# Altium footprint library EEPROM.PcbLib: 2 footprints
Each footprint in its own frame and in the unit in brackets; x right, y up, seen from the top. Pads: shape width x height; smd on the part's side, far side on the other; paste and mask are expansions set on the pad; w line width, h text height; cw(c..) or ccw(c..) is an arc to the next point about the centre after c.
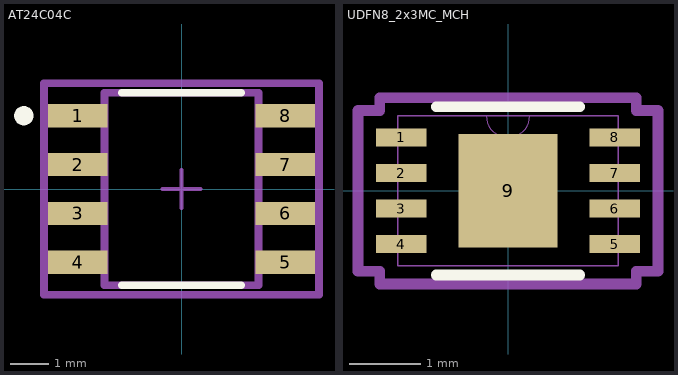
[diagram p0: the footprints below, top view; thin cyan lines are the x and y axes]

## AT24C04C [mm]
pads (8):
  rect 1.55x0.6 smd paste+0 mask+0: 1(-2.7,1.905) 2(-2.7,0.635) 3(-2.7,-0.635) 4(-2.7,-1.905) 5(2.7,-1.905) 6(2.7,-0.635) 7(2.7,0.635) 8(2.7,1.905)
Top Overlay:
  circle w0.25: c-4.1,1.905 r0.125
  lines w0.2: -1.55,-2.5 1.55,-2.5 ; -1.55,2.5 1.55,2.5
Top Assembly:
  lines w0.2: -3.575,-2.75 -3.575,2.75 3.575,2.75 3.575,-2.75 -3.575,-2.75
Top 3D Body:
  lines w0.2: -2,-2.5 -2,2.5 2,2.5 2,-2.5 -2,-2.5
Top Courtyard:
  lines w0.1: -0.5,0 0.5,0 ; 0,-0.5 0,0.5
  lines w0.2: -3.575,-2.75 -3.575,2.75 3.575,2.75 3.575,-2.75 -3.575,-2.75
3D body "IC_Microchip_24LC1025T-I-SN_eec.STEP": height 0.25, standoff 0, extent -3.575,-2.75 3.575,2.75

## UDFN8_2x3MC_MCH [mil]
pads (9):
  rect 28x10 smd paste+0 mask+0: 1(-59,29.53) 2(-59,9.84) 3(-59,-9.84) 4(-59,-29.53) 5(59,-29.53) 6(59,-9.84) 7(59,9.84) 8(59,29.53)
  rect 55x63 smd paste+0 mask+0: 9(0,0)
Top Overlay:
  lines w6: -39.68,-46.5 39.68,-46.5 ; -39.68,46.5 39.68,46.5
Top 3D Body:
  lines w0: -12,41.5 ccw(c0,41.5) 12,41.5
  lines w1: -61,-41.5 61,-41.5 61,41.5 -61,41.5 -61,-41.5
Top Courtyard:
  lines w6: -83,-44.53 -83,44.53 -71,44.53 -71,51.5 71,51.5 71,44.53 83,44.53 83,-44.53 71,-44.53 71,-51.5 -71,-51.5 -71,-44.53 -83,-44.53
3D body "UDFN8_2x3MC_MCH.step": height 22.09, standoff 0, extent -60.98,-41.5 60.98,41.5